# Altium schematic symbol library LED0603.SchLib: 1 symbol
Pins are listed as number, name and electrical type; pins without a type are passive.

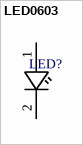
[diagram p0: symbol LED0603]

## LED0603
designator LED?  (value not drawn)
footprint LED0603
pins: 1 2, 2